# Altium footprint library PCBFootprint_SMD.PcbLib: 197 footprints (part 9 of 13)
Each footprint in its own frame and in the unit in brackets; x right, y up, seen from the top. Pads: shape width x height; smd on the part's side, far side on the other; paste and mask are expansions set on the pad; w line width, h text height; cw(c..) or ccw(c..) is an arc to the next point about the centre after c.
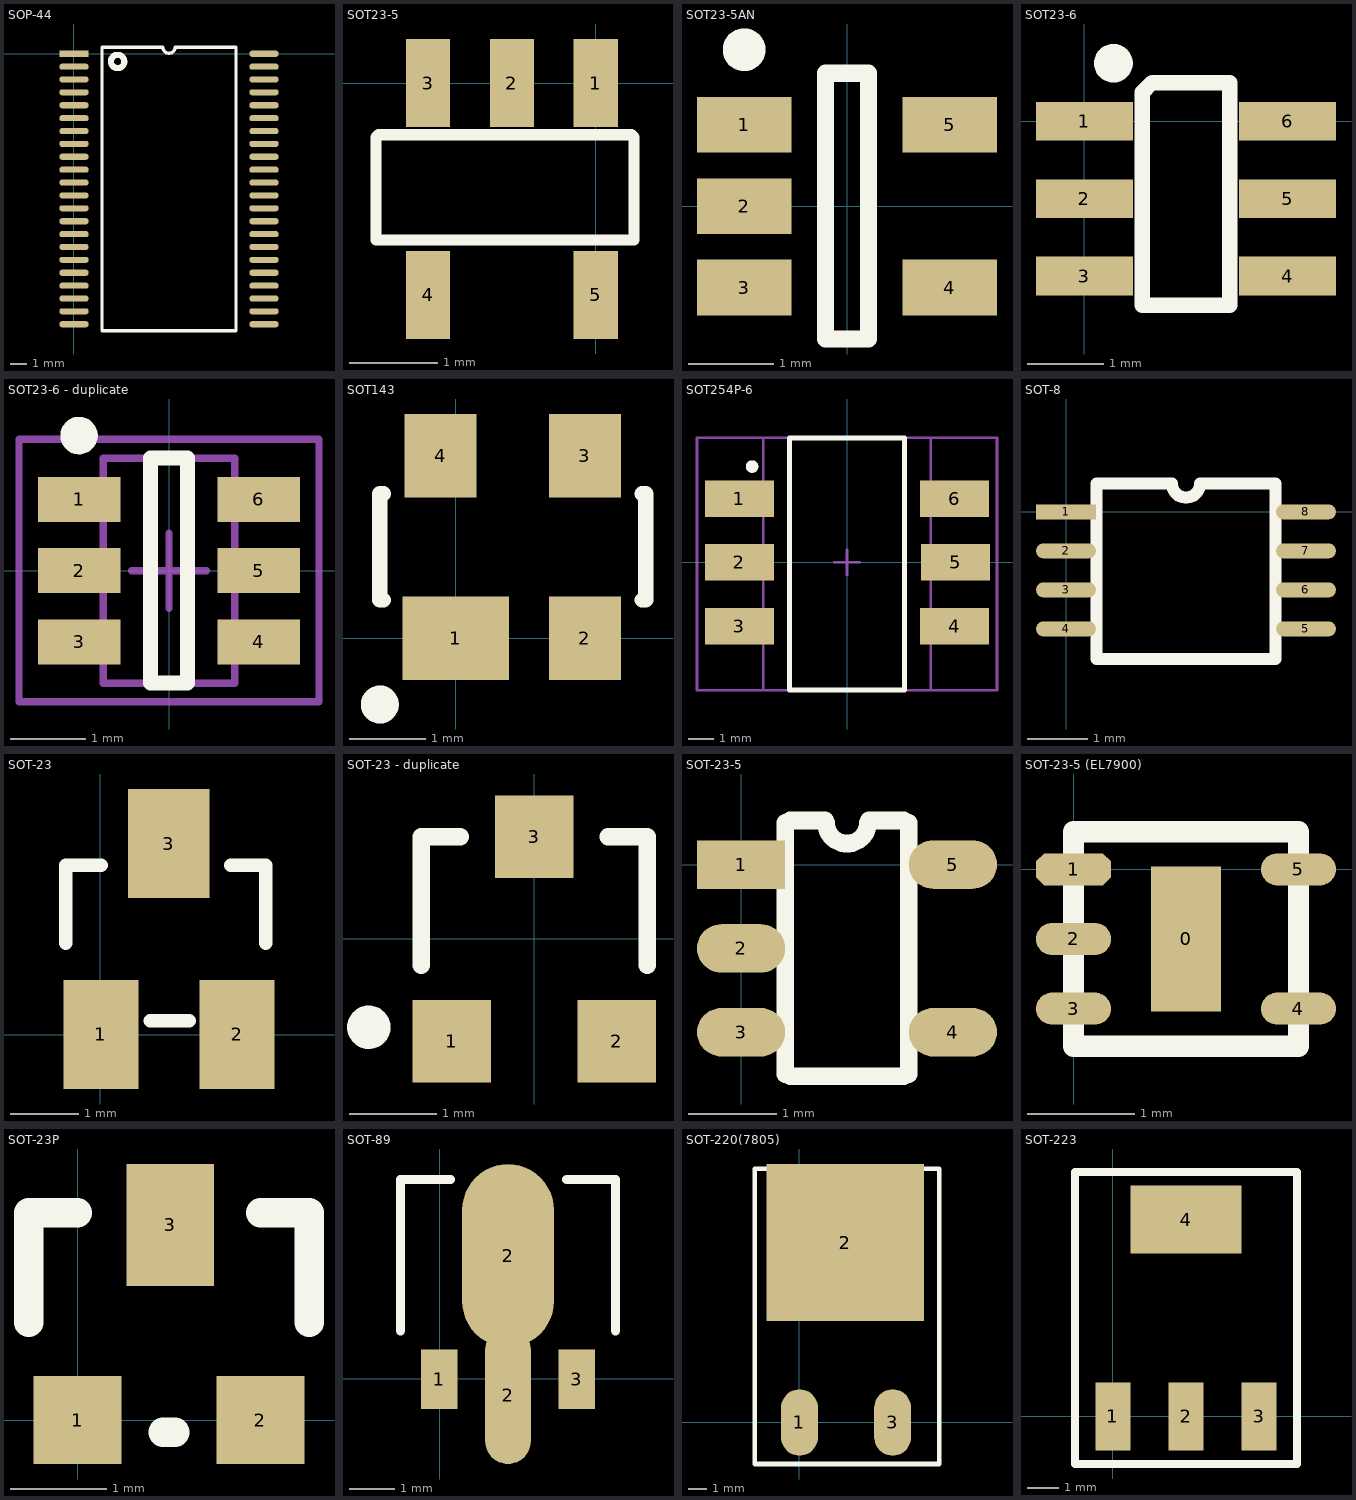
[diagram p8: the footprints below, top view; thin cyan lines are the x and y axes]

## SOP-44 [mil]
pads (44):
  rect 72x15 smd: 1(0,0)
  oval 72x15 smd: 2(0,-31.5) 3(0,-62.99) 4(0,-94.49) 5(0,-125.98) 6(0,-157.48) 7(0,-188.98) 8(0,-220.47) 9(0,-251.97) 10(0,-283.46) 11(0,-314.96) 12(0,-346.46) 13(0,-377.95) 14(0,-409.45) 15(0,-440.94) 16(0,-472.44) 17(0,-503.94) 18(0,-535.43) 19(0,-566.93) 20(0,-598.43) 21(0,-629.92) 22(0,-661.42) 23(464.57,-661.42) 24(464.57,-629.92) 25(464.57,-598.43) 26(464.57,-566.93) 27(464.57,-535.43) 28(464.57,-503.94) 29(464.57,-472.44) 30(464.57,-440.94) 31(464.57,-409.45) 32(464.57,-377.95) 33(464.57,-346.46) 34(464.57,-314.96) 35(464.57,-283.46) 36(464.57,-251.97) 37(464.57,-220.47) 38(464.57,-188.98) 39(464.57,-157.48) 40(464.57,-125.98) 41(464.57,-94.49) 42(464.57,-62.99) 43(464.57,-31.5) 44(464.57,0)
Top Overlay:
  lines w7.87: 68.31,-677.17 396.26,-677.17 396.26,15.75 247.03,15.75 cw(c232.28,15.75) 217.53,15.75 68.31,15.75 68.31,-677.17
  lines w15: 123,-19 cw(c106.69,-19) 122.99,-18.32

## SOT23-5 [mm]
pads (5):
  rect 0.5x1 smd: 1(0,0) 2(-0.95,0) 3(-1.9,0) 4(-1.9,-2.4) 5(0,-2.4)
Top Overlay:
  lines w0.127: -2.489,-1.778 0.432,-1.778 0.432,-0.737 0.432,-0.61 0.406,-0.584 -2.464,-0.584 -2.489,-0.61 -2.489,-0.737 -2.489,-1.778

## SOT23-5AN [mm]
pads (5):
  rect 1.1x0.65 smd: 1(-1.2,0.95) 2(-1.2,0) 3(-1.2,-0.95) 4(1.2,-0.95) 5(1.2,0.95)
Top Overlay:
  circle w0.25: c-1.2,1.825 r0.125
  lines w0.2: -0.25,-1.55 0.25,-1.55 0.25,1.55 -0.25,1.55 -0.25,-1.55

## SOT23-6 [mil]
pads (6):
  rect 50x20 smd: 1(0,0) 2(0,-40) 3(0,-80) 4(105,-80) 5(105,-40) 6(105,0)
Top Overlay:
  circle w10: c15,30 r5
  lines w8: 30,-95 75,-95 75,20 35,20 30,15 30,-95

## SOT23-6 - duplicate [mm] "Max4173"
height 1.45
pads (6):
  rect 1.1x0.6 smd: 1(-1.2,0.95) 2(-1.2,0) 3(-1.2,-0.95) 4(1.2,-0.95) 5(1.2,0) 6(1.2,0.95)
Top Overlay:
  circle w0.25: c-1.2,1.8 r0.125
  lines w0.2: -0.25,-1.5 0.25,-1.5 0.25,1.5 -0.25,1.5 -0.25,-1.5
Mechanical 13:
  lines w0.1: -0.875,-1.5 -0.875,1.5 0.875,1.5 0.875,-1.5 -0.875,-1.5
Mechanical 15:
  lines w0.1: -0.5,0 0.5,0 ; 0,-0.5 0,0.5 ; -2,-1.75 -2,1.75 2,1.75 2,-1.75 -2,-1.75
3D body: height 1.45, standoff 0, extent -0.875,-1.5 0.875,1.5

## SOT143 [mm]
pads (4):
  rect 1.4x1.1 smd: 1(0,0)
  rect 0.95x1.1 smd: 2(1.7,0) 3(1.7,2.4) 4(-0.2,2.4)
Top Overlay:
  circle w0.25: c-1,-0.875 r0.125
  lines w0.2: -0.95,0.5 -1,0.5 -1,1.9 -0.95,1.9 ; 2.45,0.5 2.5,0.5 2.5,1.9 2.45,1.9

## SOT254P-6 [mm] "继电器"
height 3.8
pads (6):
  rect 2.75x1.45 smd: 1(-4.283,2.54) 2(-4.283,0) 3(-4.283,-2.54) 4(4.283,-2.54) 5(4.318,0) 6(4.283,2.54)
Top Overlay:
  circle w0.25: c-3.775,3.815 r0.125
  lines w0.2: -2.286,-5.08 -2.286,4.953 2.286,4.953 2.286,-5.08 -2.286,-5.08
Mechanical 13:
  lines w0.1: -3.325,-5.08 3.325,-5.08 3.325,4.953 -3.325,4.953 -3.325,-5.08
Mechanical 15:
  lines w0.1: -0.5,0 0.5,0 ; 0,-0.5 0,0.5 ; -5.969,-5.08 5.969,-5.08 5.969,4.953 -5.969,4.953 -5.969,-5.08
3D body: height 3.8, standoff 0.05, extent -3.325,-5.08 3.325,4.953

## SOT-8 [mm]
pads (8):
  rect 1x0.254 smd: 1(0,0)
  oval 1x0.254 smd: 2(0,-0.65) 3(0,-1.3) 4(0,-1.95) 5(4,-1.95) 6(4,-1.3) 7(4,-0.65) 8(4,0)
Top Overlay:
  lines w0.2: 0.507,-2.45 3.493,-2.45 3.493,0.475 2.237,0.475 cw(c2,0.475) 1.763,0.475 0.507,0.475 0.507,-2.45

## SOT-23 [mm]
pads (3):
  rect 1.1x1.6 smd: 1(0.008,0.007) 2(2.003,0.007)
  rect 1.2x1.6 smd: 3(1.003,2.807)
Top Overlay:
  lines w0.2: -0.507,1.348 -0.507,2.491 ; -0.5,2.491 0.008,2.491 ; 0.728,0.207 1.303,0.207 ; 1.913,2.491 2.421,2.491 ; 2.423,1.348 2.423,2.491

## SOT-23 - duplicate [mm]
height 1.1
pads (3):
  rect 0.9x0.95 smd: 1(-0.95,-1.175) 2(0.95,-1.175) 3(0,1.175)
Top Overlay:
  circle w0.25: c-1.903,-1.016 r0.125
  lines w0.2: -1.3,-0.3 -1.3,1.175 -0.85,1.175 ; 0.85,1.175 1.3,1.175 1.3,-0.3

## SOT-23-5 [mm]
pads (5):
  rect 1x0.55 smd: 1(0,0)
  oval 1x0.55 smd: 2(0,-0.95) 3(0,-1.9) 4(2.4,-1.9) 5(2.4,0)
Top Overlay:
  lines w0.2: 0.5,-2.375 0.5,0.475 ; 0.557,-2.4 1.843,-2.4 ; 0.557,0.5 0.95,0.5 ; 0.963,0.475 ccw(c1.2,0.475) 1.437,0.475 ; 1.45,0.5 1.843,0.5 ; 1.9,-2.375 1.9,0.475

## SOT-23-5 (EL7900) [mm]
pads (6):
  rect 0.65x1.35 smd: 0(1.05,-0.65)
  oct 0.7x0.3 smd: 1(0,0)
  oval 0.7x0.3 smd: 2(0,-0.65) 3(0,-1.3) 4(2.1,-1.3) 5(2.1,0)
Top Overlay:
  lines w0.2: 0,-1.65 2.1,-1.65 2.1,0.35 0,0.35 0,-1.65

## SOT-23P [mil]
pads (3):
  rect 36x36 smd: 1(0,0) 2(75,0)
  rect 36x50 smd: 3(38,80)
Top Overlay:
  lines w12: -20,40 -20,85 0,85 ; 35,-5 40,-5 ; 75,85 95,85 95,40

## SOT-89 [mm]
pads (4):
  rect 0.8x1.3 smd: 1(-0.012,-0.007) 3(2.988,-0.007)
  oval 1x3 smd: 2(1.488,-0.357)
  oval 2x4 smd: 2(1.488,2.693)
Top Overlay:
  lines w0.2: -0.862,4.356 0.232,4.356 ; -0.862,1.054 -0.862,4.356 ; 2.772,4.356 3.838,4.356 3.838,1.054

## SOT-220(7805) [mm]
pads (3):
  oval 2x3.6 smd: 1(0,0) 3(5.05,0)
  rect 8.524x8.5 smd: 2(2.475,9.75)
Top Overlay:
  lines w0.254: -2.425,-2.25 7.575,-2.25 7.575,13.75 -2.425,13.75 -2.425,-2.25

## SOT-223 [mm]
pads (4):
  rect 1.1x2.15 smd: 1(0,0) 2(2.3,0) 3(4.6,0)
  rect 3.5x2.15 smd: 4(2.3,6.2)
Top Overlay:
  lines w0.25: -1.2,-1.5 5.8,-1.5 5.8,7.7 -1.2,7.7 -1.2,-1.5